# EAGLE library part 161-0504-28A-E (library 161-0504-28A-E)
Circular DIN Connectors 5 PIN DIN PCB Source: Datasheet <https://www.mouser.co.uk/datasheet/2/209/kobicon_KC-301439-1286607.pdf>
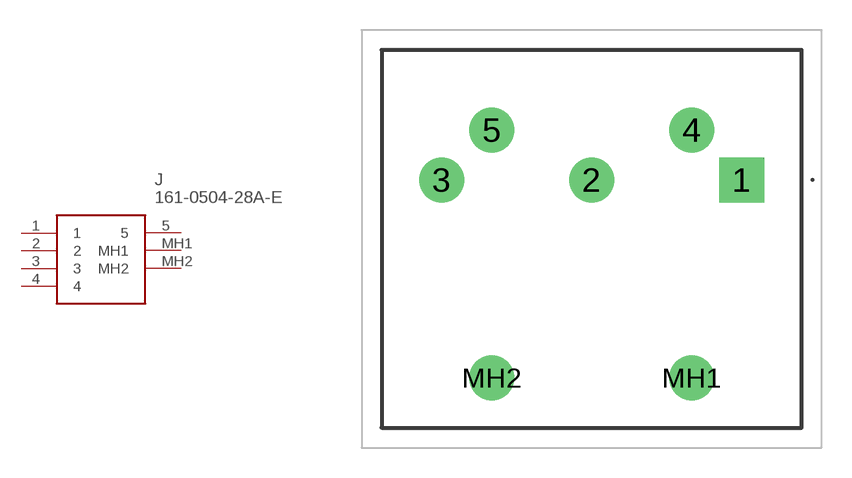
[diagram p0: symbol with the pads of 161050428AE; footprint 161050428AE]

Designator prefix J

## 161-0504-28A-E (Description: Circular DIN Connectors 5 PIN DIN PCB; Height: 19.5mm; Manufacturer_Name: Kobiconn; Manufacturer_Part_Number: 161-0504-28A-E)  [161050428AE]
1  1
2  2
3  3
4  4
5  5
MH1  MH1
MH2  MH2

## Footprint 161050428AE (pad centres in mm)
161-0504-28A-E-2
drill 1.5 pad 2.25 square: 1 0,0
drill 1.5 pad 2.25: 2 -7.5,0; 3 -15,0; 4 -2.5,2.5; 5 -12.5,2.5; MH1 -2.5,-9.9; MH2 -12.5,-9.9